# EAGLE library part FT2232D (library ftdichip-3)
FT2232 DUAL USB UART/FIFO (4th Gen USB 2 full speed)
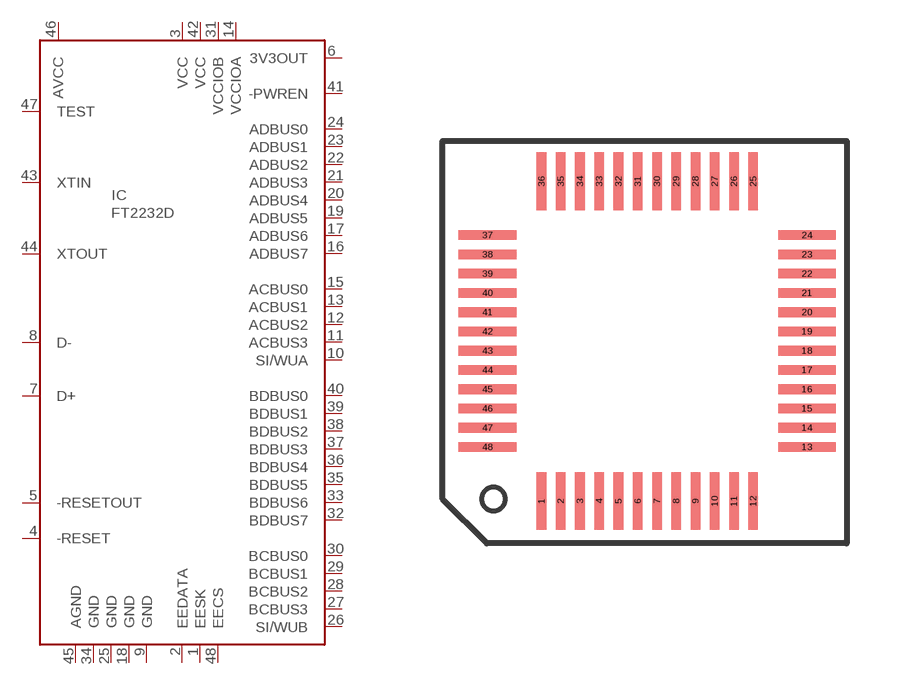
[diagram p8: symbol with the pads of QFP48-7X7; footprint QFP48-7X7]

Designator prefix IC

## FT2232D  [QFP48-7X7]
1  EESK  out
2  EEDATA  in
3  VCC  pwr
4  -RESET  in
5  -RESETOUT  out
6  3V3OUT  pwr
7  D+
8  D-
9  GND  pwr
10  SI/WUA
11  ACBUS3
12  ACBUS2
13  ACBUS1
14  VCCIOA  pwr
15  ACBUS0
16  ADBUS7
17  ADBUS6
18  GND  pwr
19  ADBUS5
20  ADBUS4
21  ADBUS3
22  ADBUS2
23  ADBUS1
24  ADBUS0
25  GND  pwr
26  SI/WUB
27  BCBUS3
28  BCBUS2
29  BCBUS1
30  BCBUS0
31  VCCIOB  pwr
32  BDBUS7
33  BDBUS6
34  GND  pwr
35  BDBUS5
36  BDBUS4
37  BDBUS3
38  BDBUS2
39  BDBUS1
40  BDBUS0
41  -PWREN  out
42  VCC  pwr
43  XTIN  in
44  XTOUT  out
45  AGND  pwr
46  AVCC  pwr
47  TEST  in
48  EECS  out

## Footprint QFP48-7X7 (pad centres in mm)
QFP 48 pin 7 x 7 mm body on 0.5mm pitch
smd 0.25 x 1.5: 1 -2.75,-4.15; 2 -2.25,-4.15; 3 -1.75,-4.15; 4 -1.25,-4.15; 5 -0.75,-4.15; 6 -0.25,-4.15; 7 0.25,-4.15; 8 0.75,-4.15; 9 1.25,-4.15; 10 1.75,-4.15; 11 2.25,-4.15; 12 2.75,-4.15; 25 2.75,4.15; 26 2.25,4.15; 27 1.75,4.15; 28 1.25,4.15; 29 0.75,4.15; 30 0.25,4.15; 31 -0.25,4.15; 32 -0.75,4.15; 33 -1.25,4.15; 34 -1.75,4.15; 35 -2.25,4.15; 36 -2.75,4.15
smd 1.5 x 0.25: 13 4.15,-2.75; 14 4.15,-2.25; 15 4.15,-1.75; 16 4.15,-1.25; 17 4.15,-0.75; 18 4.15,-0.25; 19 4.15,0.25; 20 4.15,0.75; 21 4.15,1.25; 22 4.15,1.75; 23 4.15,2.25; 24 4.15,2.75; 37 -4.15,2.75; 38 -4.15,2.25; 39 -4.15,1.75; 40 -4.15,1.25; 41 -4.15,0.75; 42 -4.15,0.25; 43 -4.15,-0.25; 44 -4.15,-0.75; 45 -4.15,-1.25; 46 -4.15,-1.75; 47 -4.15,-2.25; 48 -4.15,-2.75